# Altium schematic symbol library SCH - POWER - SWITCHMODE - MONOLITHIC POWER MP6002DN-LF-Z.SCHLIB: 1 symbol
Pins are listed as number, name and electrical type; pins without a type are passive.

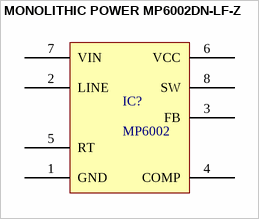
[diagram p0: symbol MONOLITHIC POWER MP6002DN-LF-Z]

## MONOLITHIC POWER MP6002DN-LF-Z
designator IC?, comment MP6002
pins: 1 GND, 2 LINE, 3 FB, 4 COMP, 5 RT, 6 VCC, 7 VIN, 8 SW